# EAGLE library part THS788 (library tcspc_lib)
THS788 Quad-Channel Time Measurement Unit http://www.ti.com/lit/ds/symlink/ths788.pdf
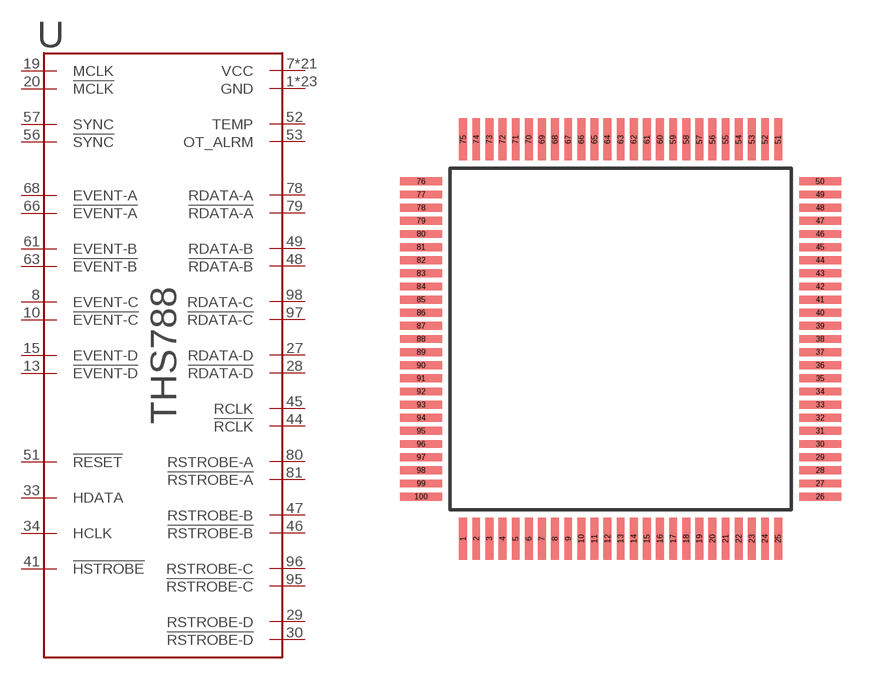
[diagram p0: symbol with the pads of S-QFP-G100; footprint S-QFP-G100]

Designator prefix U

## THS788  [S-QFP-G100]
1  GND  pwr
2  GND  pwr
7  VCC  pwr
8  EVENT-C  in
10  !EVENT-C  in
11  GND  pwr
12  GND  pwr
13  !EVENT-D  in
15  EVENT-D  in
16  VCC  pwr
19  MCLK  in
20  !MCLK  in
21  GND  pwr
22  VCC  pwr
23  VCC  pwr
24  VCC  pwr
25  GND  pwr
27  RDATA-D  out
28  !RDATA-D  out
29  RSTROBE-D  out
30  !RSTROBE-D  out
31  VCC  pwr
32  GND  pwr
33  HDATA
34  HCLK  in
35  GND  pwr
36  VCC  pwr
37  GND  pwr
38  VCC  pwr
39  GND  pwr
40  VCC  pwr
41  !HSTROBE  in
42  GND  pwr
43  VCC  pwr
44  !RCLK  out
45  RCLK  out
46  !RSTROBE-B  out
47  RSTROBE-B  out
48  !RDATA-B  out
49  RDATA-B  out
51  !RESET  in
52  TEMP  out
53  OT_ALRM  out
55  GND  pwr
56  !SYNC
57  SYNC
58  VCC  pwr
60  VCC  pwr
61  EVENT-B  in
63  !EVENT-B  in
64  GND  pwr
65  GND  pwr
66  !EVENT-A  in
68  EVENT-A  in
69  VCC  pwr
74  GND  pwr
75  GND  pwr
77  VCC  pwr
78  RDATA-A  out
79  !RDATA-A  out
80  RSTROBE-A  out
81  !RSTROBE-A  out
82  GND  pwr
83  VCC  pwr
84  GND  pwr
85  GND  pwr
86  VCC  pwr
87  GND  pwr
88  VCC  pwr
89  GND  pwr
90  VCC  pwr
91  VCC  pwr
92  GND  pwr
93  VCC  pwr
94  GND  pwr
95  !RSTROBE-C  out
96  RSTROBE-C  out
97  !RDATA-C  out
98  RDATA-C  out
99  VCC  pwr

## Footprint S-QFP-G100 (pad centres in mm)
PowerPAD Plastic Quad Flatpack (TI)
smd 0.3 x 1.6: 1 -6,-7.6; 2 -5.5,-7.6; 3 -5,-7.6; 4 -4.5,-7.6; 5 -4,-7.6; 6 -3.5,-7.6; 7 -3,-7.6; 8 -2.5,-7.6; 9 -2,-7.6; 10 -1.5,-7.6; 11 -1,-7.6; 12 -0.5,-7.6; 13 0,-7.6; 14 0.5,-7.6; 15 1,-7.6; 16 1.5,-7.6; 17 2,-7.6; 18 2.5,-7.6; 19 3,-7.6; 20 3.5,-7.6; 21 4,-7.6; 22 4.5,-7.6; 23 5,-7.6; 24 5.5,-7.6; 25 6,-7.6; 51 6,7.6; 52 5.5,7.6; 53 5,7.6; 54 4.5,7.6; 55 4,7.6; 56 3.5,7.6; 57 3,7.6; 58 2.5,7.6; 59 2,7.6; 60 1.5,7.6; 61 1,7.6; 62 0.5,7.6; 63 0,7.6; 64 -0.5,7.6; 65 -1,7.6; 66 -1.5,7.6; 67 -2,7.6; 68 -2.5,7.6; 69 -3,7.6; 70 -3.5,7.6; 71 -4,7.6; 72 -4.5,7.6; 73 -5,7.6; 74 -5.5,7.6; 75 -6,7.6
smd 1.6 x 0.3: 26 7.6,-6; 27 7.6,-5.5; 28 7.6,-5; 29 7.6,-4.5; 30 7.6,-4; 31 7.6,-3.5; 32 7.6,-3; 33 7.6,-2.5; 34 7.6,-2; 35 7.6,-1.5; 36 7.6,-1; 37 7.6,-0.5; 38 7.6,0; 39 7.6,0.5; 40 7.6,1; 41 7.6,1.5; 42 7.6,2; 43 7.6,2.5; 44 7.6,3; 45 7.6,3.5; 46 7.6,4; 47 7.6,4.5; 48 7.6,5; 49 7.6,5.5; 50 7.6,6; 76 -7.6,6; 77 -7.6,5.5; 78 -7.6,5; 79 -7.6,4.5; 80 -7.6,4; 81 -7.6,3.5; 82 -7.6,3; 83 -7.6,2.5; 84 -7.6,2; 85 -7.6,1.5; 86 -7.6,1; 87 -7.6,0.5; 88 -7.6,0; 89 -7.6,-0.5; 90 -7.6,-1; 91 -7.6,-1.5; 92 -7.6,-2; 93 -7.6,-2.5; 94 -7.6,-3; 95 -7.6,-3.5; 96 -7.6,-4; 97 -7.6,-4.5; 98 -7.6,-5; 99 -7.6,-5.5; 100 -7.6,-6